# Altium schematic symbol library crystal.SchLib: 1 symbol
Pins are listed as number, name and electrical type; pins without a type are passive.

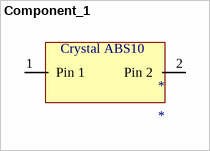
[diagram p0: symbol Component_1]

## Component_1
designator *
pins: 1 Pin 1, 2 Pin 2
text: Crystal ABS10